# Altium schematic symbol library chicker.SCHLIB: 17 symbols
Pins are listed as number, name and electrical type; pins without a type are passive.

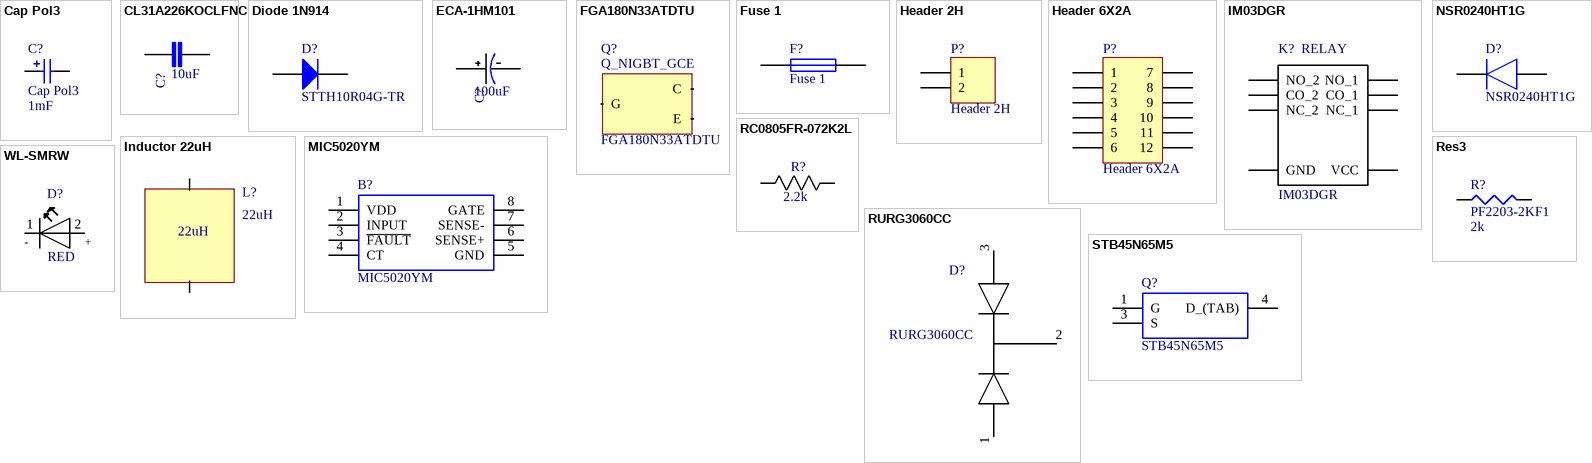
[diagram p0: symbols Cap Pol3 to WL-SMRW]

## Cap Pol3
designator C?  value 1mF
Polarized Capacitor (Surface Mount); MF: United Chemi-Con; MP: ESMQ251VSN102MQ45S; PackageReference: C0805; PackageDescription: Chip Capacitor; Digi-Key_Link: https://www.digikey.ca/products/en?keywords=565-2754-ND; Digi-Key_Part_Num: 565-2754-ND
footprint C0805 (Chip Capacitor, Body 2.0x1.3mm, IPC High Density)
footprint 1812 (Chip Capacitor, Body 4.5x3.2mm, IPC High Density)
footprint 1825 (Chip Capacitor, Body 4.5x6.4mm, IPC High Density)
footprint C2225 (Chip Capacitor, Body 5.7x6.4mm, IPC High Density)
footprint 2220 (Chip Capacitor, Body 5.7x5.0mm, IPC High Density)
simulation model CAP (Capacitor)
signal-integrity model Cap Pol
pins: 1, 2
1 alternate drawing of the same symbol

## CL31A226KOCLFNC
designator C?  value 10uF  (hidden comment: CL31A226KOCLFNC)
CAP CER 10UF 25V X5R 1206; MF: Samsung; MP: CL31A106KAHNNNE; SnapEDA_Link: https://www.snapeda.com/parts/CL31A226KOCLFNC/Samsung%20Electro-Mechanics/view-part/?ref=snap; Package: 1206 Samsung; Digi-Key_Part_Num: 1276-1075-1-ND; Digi-Key_Link: https://www.digikey.ca/products/en?keywords=1276-1075-1-ND
footprint CAPC3216X100N
pins: 1, 2

## Diode 1N914
designator D?, comment STTH10R04G-TR
DIODE GEN PURP 400V 10A D2PAK; MF: STMicroelectronics; Digi-Key_Part_Num: 497-7575-1-ND; Digi-Key_Link: https://www.digikey.ca/products/en?keywords=497-7575-1-ND; MP: STTH10R04G-TR; Package: TO-263-3, D2PAK
footprint DPAK508P1542X460-3N
pins: 1 A, 2 K

## ECA-1HM101
designator C?  value 100uF  (hidden comment: ECA-1HM101)
CAP ALUM 100UF 20% 50V RADIAL; MF: Panasonic; SnapEDA_Link: https://www.snapeda.com/parts/ECA-1HM101/Panasonic%20Electronic%20Components/view-part/?ref=snap; Availability: Good; MP: ECA-1HM101; Package: Radial Panasonic; Digi-Key_Part_Num: P5182-ND; Digi-Key_Link: https://www.digikey.ca/products/en?keywords=P5182-ND
footprint CAPPRD350W60D800H1150B_ECA-1HM101(Primary)
pins: NEG, POS

## FGA180N33ATDTU
designator Q?
IGBT Trench 330V 180A 390W Through Hole TO-3P; MF: ON Semiconductor; Digi-Key_Part_Num: FGA180N33ATDTU-ND; Digi-Key_Link: https://www.digikey.ca/product-detail/en/on-semiconductor/FGA180N33ATTU/FGA180N33ATTU-ND/1916865; MP: FGA180N33ATDTU; Package: TO-3P-3, SC-65-3; Mouting: Through Hole
footprint TO247AC
footprint TO-3PN_V_FDA69N25(Primary)
pins: 3 E, 4 C, G
text: Q_NIGBT_GCE

## Fuse 1
designator F?
FUSE BOARD MOUNT 5A 32VDC 1206; MF: Littelfuse Inc.; MP: 0469005.WR; Digi-Key_Part_Num: F3539CT-ND; Digi-Key_Link: https://www.digikey.ca/products/en?keywords=F3539CT-ND; Package: 1206
simulation model FUSE (Spice Subcircuit)
footprint FUSM3216X140N
pins: 1, 2

## Header 2H
designator P?
Header, 2-Pin, Right Angle; LatestRevisionDate: 17-Jul-2002; LatestRevisionNote: Re-released for DXP Platform.; Publisher: Altium Limited
footprint HDR1X2H (Connector; Header; 2 Position; Right Angle)
signal-integrity model Connector
pins: 1, 2

## Header 6X2A
designator P?
Header, 6-Pin, Dual row; MF: Sullins Connector Solutions; MP: PPTC062LFBN-RC; Publisher: Altium Limited; Digi-Key_Part_Num: S7074-ND; Digi-Key_Link: https://www.digikey.ca/products/en?keywords=S7074-ND
footprint HDR2X6_CEN (Connector; Header; 6x2 Position)
signal-integrity model Connector
pins: 1, 2, 3, 4, 5, 6, 7, 8, 9, 10, 11, 12

## IM03DGR
designator K?  value RELAY
Relay, Signal, Dpdt, 250vac, 220vdc, 5a; MF: TE Connectivity; Package: None; Availability: Bad; MP: IM03DGR; Mouse_Link: https://ca.mouser.com/ProductDetail/TE-Connectivity-Axicom/IM03DGR?qs=%2fha2pyFaduiF1fFPF6khDaDmW4QDr7NXlTj5CREuzvY%3d; Mouser_Part_Num: 655-IM03DGR
footprint GULLWINGS
pins: 1 VCC (power), 2 NC_1, 3 CO_1, 4 NO_1, 5 NO_2, 6 CO_2, 7 NC_2, 8 GND (power)

## Inductor 22uH
designator L?, comment 22uH
footprint PCBComponent_1
pins: 0, 1

## MIC5020YM
designator B?
Low-Side Gate Driver IC Non-Inverting 8-SOIC; MP: Microchip; Geometry.Height: 1.879mm; MF: MIC5020YM; Arrow Part Number: MIC5020YM; Arrow Price/Stock: https://www.arrow.com/en/products/mic5020ym/microchip-technology; Datasheet Link: http://ww1.microchip.com/downloads/en/devicedoc/mic5020.pdf; Digi-Key_Part_Num: 576-1818-5-ND; Digi-Key_Link: https://www.digikey.ca/products/en?keywords=576-1818-5-ND; Package: 8-SOIC (0.154", 3.90mm Width)
footprint SOIC127P600X188-8N
pins: 1 VDD (power), 2 INPUT, 3 ~{FAULT}, 4 CT, 5 GND, 6 SENSE+, 7 SENSE-, 8 GATE

## NSR0240HT1G
designator D?
SMT Schottky Diode, 40V dc 250mA, 3ns, 2-pin SOD-323; MF: ON Semiconductor; Allied_Number: 70341267; Geometry.Height: 1.1mm; MP: NSR0240HT1G; RS Part Number: 7931024P; RS Price/Stock: http://uk.rs-online.com/web/p/products/7931024P; Allied Price/Stock: http://www.alliedelec.com/on-semiconductor-nsr0240ht1g/70341267/; Arrow Part Number: NSR0240HT1G; Arrow Price/Stock: https://www.arrow.com/en/products/nsr0240ht1g/on-semiconductor; Datasheet Link: http://www.onsemi.com/pub/Collateral/NSR0240H-D.PDF; Digi-Key_Part_Num: NSR0240HT1GOSCT-ND; Digi-Key_Link: https://www.digikey.ca/products/en?keywords=NSR0240HT1GOSCT-ND
footprint SOD2512X110N
pins: 1 K, 2 A

## RC0805FR-072K2L
designator R?, comment 2.2k
RES SMD 2.2K OHM 1% 1/8W 0805; MP: RC0805FR-072K2L; MF: Yageo; Availability: Good; Package: 0805 Yageo; SnapEDA_Link: https://www.snapeda.com/parts/RC0805FR-072K2L/Yageo/view-part/?ref=snap; Digi-Key_Link: https://www.digikey.ca/products/en?keywords=311-2.20KCRCT-ND; Digi-Key_Part_Num: 311-2.20KCRCT-ND; Value: 2.2k
footprint RESC2013X65N
pins: 1 R1, 2 R2

## Res3
designator R?, comment PF2203-2KF1  value 2k
RES 2K OHM 35W 1% TO220; MF: Riedon; Published: 8-Jun-2000; LatestRevisionDate: 29-May-2009; LatestRevisionNote: IPC-7351 Footprint Added.; Package: TO-220-2; Publisher: Altium Limited; Digi-Key_Link: https://www.digikey.ca/products/en?keywords=696-1170-ND; Digi-Key_Part_Num: 696-1170-ND; MP: PF2203-2KF1
footprint J1-0603 (Chip Resistor, Body 1.6x0.8mm, IPC High Density)
footprint 14-1210 (Chip Resistor, Body 3.2x2.5mm, IPC High Density)
footprint 12Z-2010 (Chip Resistor, Body 5.0x2.5mm, IPC High Density)
footprint RESC6332 (Chip Resistor, Body 6.3x3.2mm, IPC High Density)
simulation model RESISTOR (Resistor)
signal-integrity model Res
footprint POWER_DIODE
pins: 1, 2

## RURG3060CC
designator D?  (value not drawn)
DIODE ARRAY GP 600V 30A TO247; MF: On Semiconductor; Digi-Key_Part_Num: RURG3060CC-ND; Digi-Key_Link: https://www.digikey.ca/product-detail/en/on-semiconductor/RURG3060CC/RURG3060CC-ND/458782; MP: RURG3060CC; Package: TO-247-3; Mounting: Through Hole
footprint SOT93_TIP147(Primary)
pins: 1 7, 2 6, 3 1

## STB45N65M5
designator Q?
MOSFET N CH 650V 35A D2PAK; MF: STMicroelectronics; Allied_Number: 70390681; Geometry.Height: 4.6mm; MP: STB45N65M5; Allied Price/Stock: http://www.alliedelec.com/stmicroelectronics-stb45n65m5/70390681/; Arrow Part Number: STB45N65M5; Datasheet Link: http://www.st.com/web/en/resource/technical/document/datasheet/DM00049184.pdf; Digi-Key_Part_Num: 497-12940-1-ND; Digi-Key_Link: https://www.digikey.ca/products/en?keywords=497-12940-1-ND
footprint TO254P1542X460-3N
pins: 1 G, 3 S, 4 D_(TAB)

## WL-SMRW
designator D?, comment RED
LED RED CLEAR 1206 SMD; MF: Lite-On Inc.; MP: LTST-C150CKT; SnapEDA_Link: https://www.snapeda.com/parts/156120YS75000/Wurth%20Electronics%20Inc/view-part/?ref=snap; Availability: Good; Package: 1206; Value: *; Digi-Key_Part_Num: 160-1167-1-ND; Digi-Key_Link: https://www.digikey.ca/products/en?keywords=160-1167-1-ND
footprint WL-SMRW-1206-RECT
pins: 1 NEG (io), 2 POS (io)
text: -; +